# EAGLE library part ATMEL_TINY26* (library AdapterDIP8M16)
8-bit AVR Microcontroller with 2K Bytes Flash Source: http://www.atmel.com .. doc1477.pdf
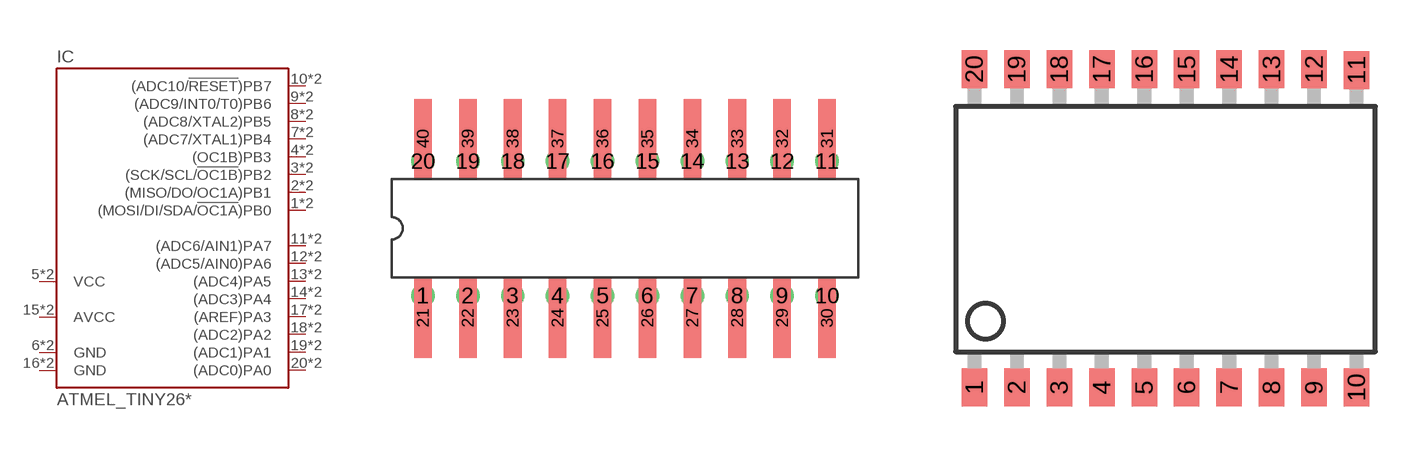
[diagram p5: symbol with the pads of ATMEL_DIL20; footprints ATMEL_DIL20, ATMEL_SO20L]

Designator prefix IC

## ATMEL_TINY26P, ATMEL_TINY26LP  [ATMEL_DIL20]
1  (MOSI/DI/SDA/!OC1A!)PB0
2  (MISO/DO/OC1A)PB1
3  (SCK/SCL/!OC1B!)PB2
4  (OC1B)PB3
5  VCC  pwr
6  GND  pwr
7  (ADC7/XTAL1)PB4
8  (ADC8/XTAL2)PB5
9  (ADC9/INT0/T0)PB6
10  (ADC10/!RESET!)PB7
11  (ADC6/AIN1)PA7
12  (ADC5/AIN0)PA6
13  (ADC4)PA5
14  (ADC3)PA4
15  AVCC  pwr
16  GND  pwr
17  (AREF)PA3
18  (ADC2)PA2
19  (ADC1)PA1
20  (ADC0)PA0
21  (MOSI/DI/SDA/!OC1A!)PB0
22  (MISO/DO/OC1A)PB1
23  (SCK/SCL/!OC1B!)PB2
24  (OC1B)PB3
25  VCC  pwr
26  GND  pwr
27  (ADC7/XTAL1)PB4
28  (ADC8/XTAL2)PB5
29  (ADC9/INT0/T0)PB6
30  (ADC10/!RESET!)PB7
31  (ADC6/AIN1)PA7
32  (ADC5/AIN0)PA6
33  (ADC4)PA5
34  (ADC3)PA4
35  AVCC  pwr
36  GND  pwr
37  (AREF)PA3
38  (ADC2)PA2
39  (ADC1)PA1
40  (ADC0)PA0

## ATMEL_TINY26S, ATMEL_TINY26LS  [ATMEL_SO20L]
1  (MOSI/DI/SDA/!OC1A!)PB0
2  (MISO/DO/OC1A)PB1
3  (SCK/SCL/!OC1B!)PB2
4  (OC1B)PB3
5  VCC  pwr
6  GND  pwr
7  (ADC7/XTAL1)PB4
8  (ADC8/XTAL2)PB5
9  (ADC9/INT0/T0)PB6
10  (ADC10/!RESET!)PB7
11  (ADC6/AIN1)PA7
12  (ADC5/AIN0)PA6
13  (ADC4)PA5
14  (ADC3)PA4
15  AVCC  pwr
16  GND  pwr
17  (AREF)PA3
18  (ADC2)PA2
19  (ADC1)PA1
20  (ADC0)PA0

## Footprint ATMEL_DIL20 (pad centres in mm)
Dual In Line
drill 0.813: 1 -11.43,-3.81; 2 -8.89,-3.81; 3 -6.35,-3.81; 4 -3.81,-3.81; 5 -1.27,-3.81; 6 1.27,-3.81; 7 3.81,-3.81; 8 6.35,-3.81; 9 8.89,-3.81; 10 11.43,-3.81; 11 11.43,3.81; 12 8.89,3.81; 13 6.35,3.81; 14 3.81,3.81; 15 1.27,3.81; 16 -1.27,3.81; 17 -3.81,3.81; 18 -6.35,3.81; 19 -8.89,3.81; 20 -11.43,3.81
smd 1 x 4.5: 21 -11.43,-5.08; 22 -8.89,-5.08; 23 -6.35,-5.08; 24 -3.81,-5.08; 25 -1.27,-5.08; 26 1.27,-5.08; 27 3.81,-5.08; 28 6.35,-5.08; 29 8.89,-5.08; 30 11.43,-5.08; 31 11.43,5.08; 32 8.89,5.08; 33 6.35,5.08; 34 3.81,5.08; 35 1.27,5.08; 36 -1.27,5.08; 37 -3.81,5.08; 38 -6.35,5.08; 39 -8.89,5.08; 40 -11.43,5.08

## Footprint ATMEL_SO20L (pad centres in mm)
Small Outline Package SOIC 0.300"
smd 0.762 x 1.143: 1 -5.08,-5.131; 2 -3.81,-5.131; 3 -2.54,-5.131; 4 -1.27,-5.131; 5 0,-5.131; 6 1.27,-5.131; 7 2.54,-5.131; 8 3.81,-5.131; 9 5.08,-5.131; 10 6.35,-5.131; 11 6.35,4.369; 12 5.08,4.394; 13 3.81,4.394; 14 2.54,4.394; 15 1.27,4.394; 16 0,4.394; 17 -1.27,4.394; 18 -2.54,4.394; 19 -3.81,4.394; 20 -5.08,4.394